# Altium footprint library v-reg-micrel.PCBLIB: 2 footprints
Each footprint in its own frame and in the unit in brackets; x right, y up, seen from the top. Pads: shape width x height; smd on the part's side, far side on the other; paste and mask are expansions set on the pad; w line width, h text height; cw(c..) or ccw(c..) is an arc to the next point about the centre after c.
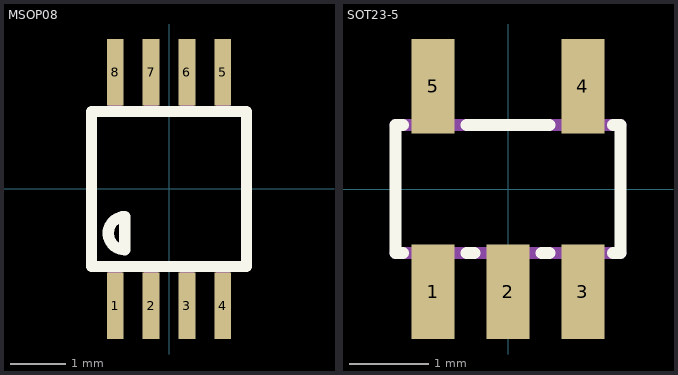
[diagram p0: the footprints below, top view; thin cyan lines are the x and y axes]

## MSOP08 [mm]
pads (8):
  rect 0.3x1.2 smd: 1(-0.976,-2.113) 2(-0.326,-2.113) 3(0.324,-2.113) 4(0.974,-2.113) 5(0.974,2.112) 6(0.324,2.112) 7(-0.326,2.112) 8(-0.976,2.112)
Top Overlay:
  lines w0.203: -1.4,-1.4 1.4,-1.4 1.4,1.4 -1.4,1.4 -1.4,-1.4 ; -0.8,-1.1 cw(c-0.8,-0.8) -0.8,-0.5 -0.8,-1.1
Mechanical 16:
  rectangle: -1.1,-2.5 -0.85,-1.5
  rectangle: -0.45,-2.5 -0.2,-1.5
  rectangle: 0.2,-2.5 0.45,-1.5
  rectangle: 0.2,-2.5 0.45,-1.5
  rectangle: 0.85,-2.5 1.1,-1.5
  rectangle: 0.85,1.5 1.1,2.5
  rectangle: 0.2,1.5 0.45,2.5
  rectangle: -0.45,1.5 -0.2,2.5
  rectangle: -1.1,1.5 -0.85,2.5

## SOT23-5 [mm]
pads (5):
  rect 0.55x1.2 smd: 1(-0.95,-1.3) 2(0,-1.3) 3(0.95,-1.3) 4(0.95,1.3) 5(-0.95,1.3)
Top Overlay:
  lines w0.152: -1.328,-0.811 -1.422,-0.811 -1.422,0.811 -1.328,0.811 ; -0.522,-0.811 -0.427,-0.811 ; -0.522,0.811 0.522,0.811 ; 0.427,-0.811 0.522,-0.811 ; 1.328,-0.811 1.422,-0.811 1.422,0.811 1.328,0.811
Mechanical 16:
  rectangle: -1.2,-1.5 -0.7,-0.85
  rectangle: -0.25,-1.5 0.25,-0.85
  rectangle: 0.7,-1.5 1.2,-0.85
  rectangle: 0.7,0.85 1.2,1.5
  rectangle: -1.2,0.85 -0.7,1.5
  lines w0.152: -1.422,-0.811 1.422,-0.811 ; -1.422,0.811 1.422,0.811